# Altium schematic symbol library ARCA_SCHLIB.SchLib: 11 symbols
Pins are listed as number, name and electrical type; pins without a type are passive.

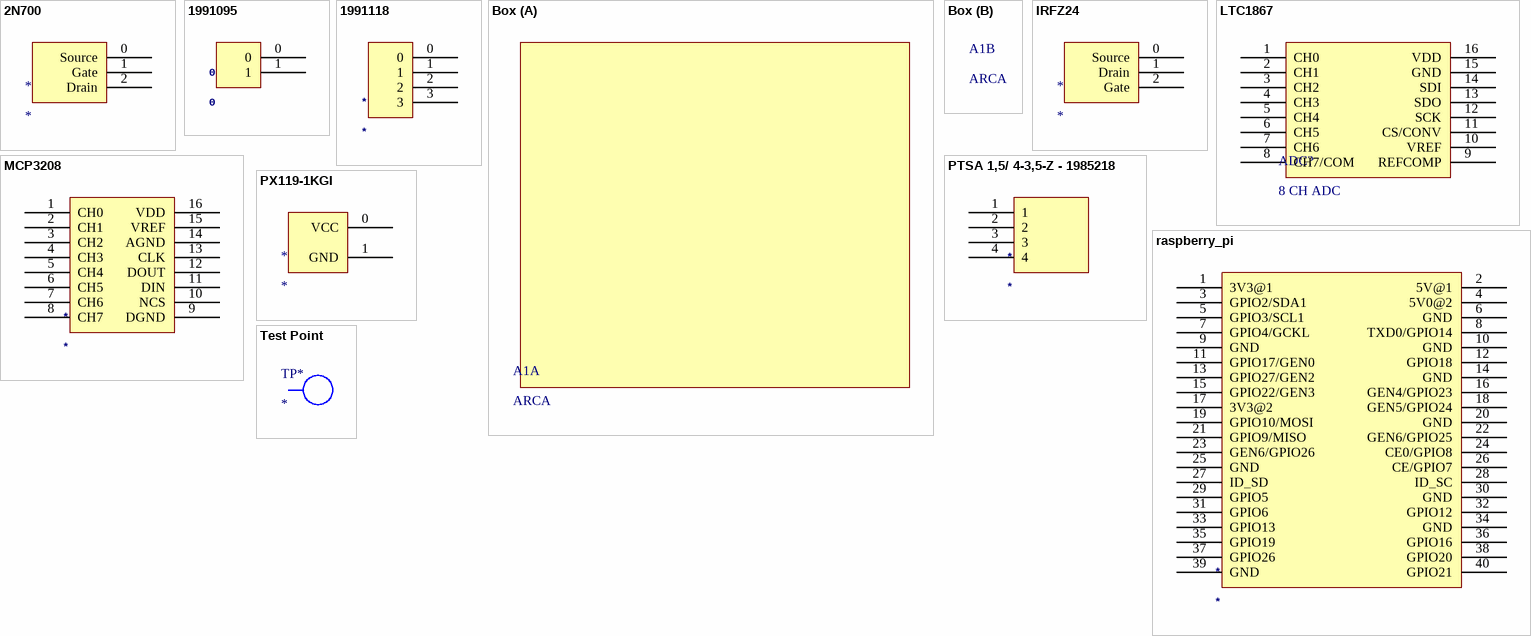
[diagram p0: symbols 2N700 to Test Point]

## 2N700
designator *
pins: 0 Source, 1 Gate, 2 Drain

## 1991095
designator 0, comment 0
Phoenix Contact Connector PCB Terminal 2 port
pins: 0, 1 "Phoenix Contact PCB Terminal Block"

## 1991118
designator *
pins: 0, 1, 2, 3 "Phoenix Contact PCB Terminal 4port"

## Box
designator A1, comment ARCA
Outermost Block Diagram

## IRFZ24
designator *
pins: 0 Source, 1 Drain, 2 Gate

## LTC1867
designator ADC?, comment 8 CH ADC
Analog to Digital Converters - ADC 16-bit, 8-ch. Serial, Micropower ADC; ComponentLink1Description: LTC1867; ComponentLink1URL: https://www.mouser.com/ProductDetail/Analog-Devices-Linear-Technology/LTC1867CGNPBF?qs=sGAEpiMZZMvTvDTV69d2QmBn0BVuX5FEarpcve2605Y%3D
pins: 1 CH0, 2 CH1, 3 CH2, 4 CH3, 5 CH4, 6 CH5, 7 CH6, 8 CH7/COM, 9 REFCOMP, 10 VREF, 11 CS/CONV, 12 SCK, 13 SDO, 14 SDI, 15 GND, 16 VDD

## MCP3208
designator *
footprint SOIC127P600X175-16N (SOIC, 16-Leads, Body 9.90x3.90mm, Pitch 1.27mm, IPC Medium Density)
pins: 1 CH0, 2 CH1, 3 CH2, 4 CH3, 5 CH4, 6 CH5, 7 CH6, 8 CH7, 9 DGND, 10 NCS, 11 DIN, 12 DOUT, 13 CLK, 14 AGND, 15 VREF, 16 VDD

## PTSA 1,5/ 4-3,5-Z - 1985218
designator *
Phoenix Contact PCB Terminal Spring Cage Clamp + Button 4 pos
pins: 1, 2, 3, 4

## PX119-1KGI
designator *
pins: 0 VCC, 1 GND "Pressure Transducer"

## raspberry_pi
designator *
pins: 1 3V3@1, 2 5V@1, 3 GPIO2/SDA1, 4 5V0@2, 5 GPIO3/SCL1, 6 GND, 7 GPIO4/GCKL, 8 TXD0/GPIO14, 9 GND, 10 GND, 11 GPIO17/GEN0, 12 GPIO18, 13 GPIO27/GEN2, 14 GND, 15 GPIO22/GEN3, 16 GEN4/GPIO23, 17 3V3@2, 18 GEN5/GPIO24, 19 GPIO10/MOSI, 20 GND, 21 GPIO9/MISO, 22 GEN6/GPIO25, 23 GEN6/GPIO26, 24 CE0/GPIO8, 25 GND, 26 CE/GPIO7, 27 ID_SD, 28 ID_SC, 29 GPIO5, 30 GND, 31 GPIO6, 32 GPIO12, 33 GPIO13, 34 GND, 35 GPIO19, 36 GPIO16, 37 GPIO26, 38 GPIO20, 39 GND, 40 GPIO21

## Test Point
designator TP*